# EAGLE library part PINHD-1X30 (library pinhead)
PIN HEADER
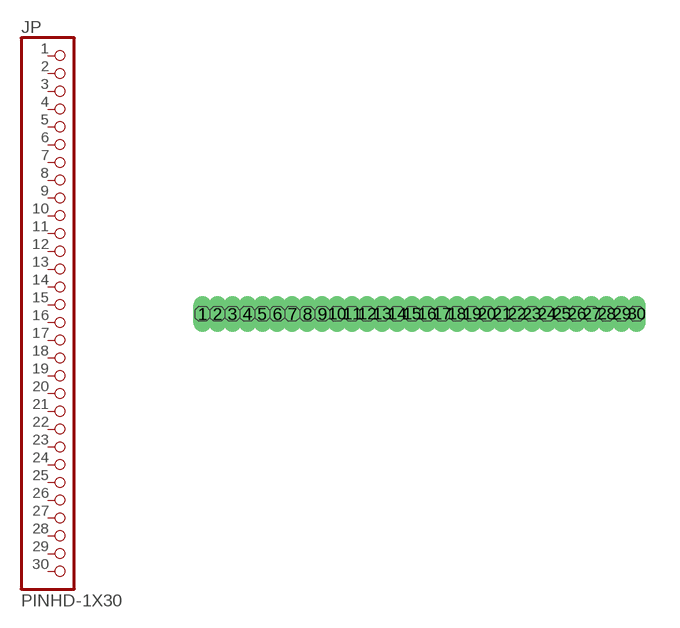
[diagram p18: symbol with the pads of 1X30; footprint 1X30]

Designator prefix JP

## PINHD-1X30  [1X30]
1  1  pas
2  2  pas
3  3  pas
4  4  pas
5  5  pas
6  6  pas
7  7  pas
8  8  pas
9  9  pas
10  10  pas
11  11  pas
12  12  pas
13  13  pas
14  14  pas
15  15  pas
16  16  pas
17  17  pas
18  18  pas
19  19  pas
20  20  pas
21  21  pas
22  22  pas
23  23  pas
24  24  pas
25  25  pas
26  26  pas
27  27  pas
28  28  pas
29  29  pas
30  30  pas

## Footprint 1X30 (pad centres in mm)
PIN HEADER
drill 0.254 long: 1 -9.207,0; 2 -8.572,0; 3 -7.938,0; 4 -7.303,0; 5 -6.668,0; 6 -6.032,0; 7 -5.397,0; 8 -4.763,0; 9 -4.128,0; 10 -3.493,0; 11 -2.857,0; 12 -2.223,0; 13 -1.587,0; 14 -0.953,0; 15 -0.318,0; 16 0.318,0; 17 0.953,0; 18 1.587,0; 19 2.223,0; 20 2.857,0; 21 3.493,0; 22 4.128,0; 23 4.763,0; 24 5.397,0; 25 6.032,0; 26 6.668,0; 27 7.303,0; 28 7.938,0; 29 8.572,0; 30 9.207,0